# Altium schematic symbol library SW-TACT-4PIN.SchLib: 1 symbol
Pins are listed as number, name and electrical type; pins without a type are passive.

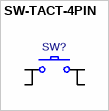
[diagram p0: symbol SW-TACT-4PIN]

## SW-TACT-4PIN
designator SW?  (value not drawn)
Value: SW-TACT-4PIN
footprint 6X6-SMT
footprint 12X12-SMT
pins: 1, 2, 3, 4